# Altium schematic symbol library MaUWB.SchLib: 27 symbols
Pins are listed as number, name and electrical type; pins without a type are passive.

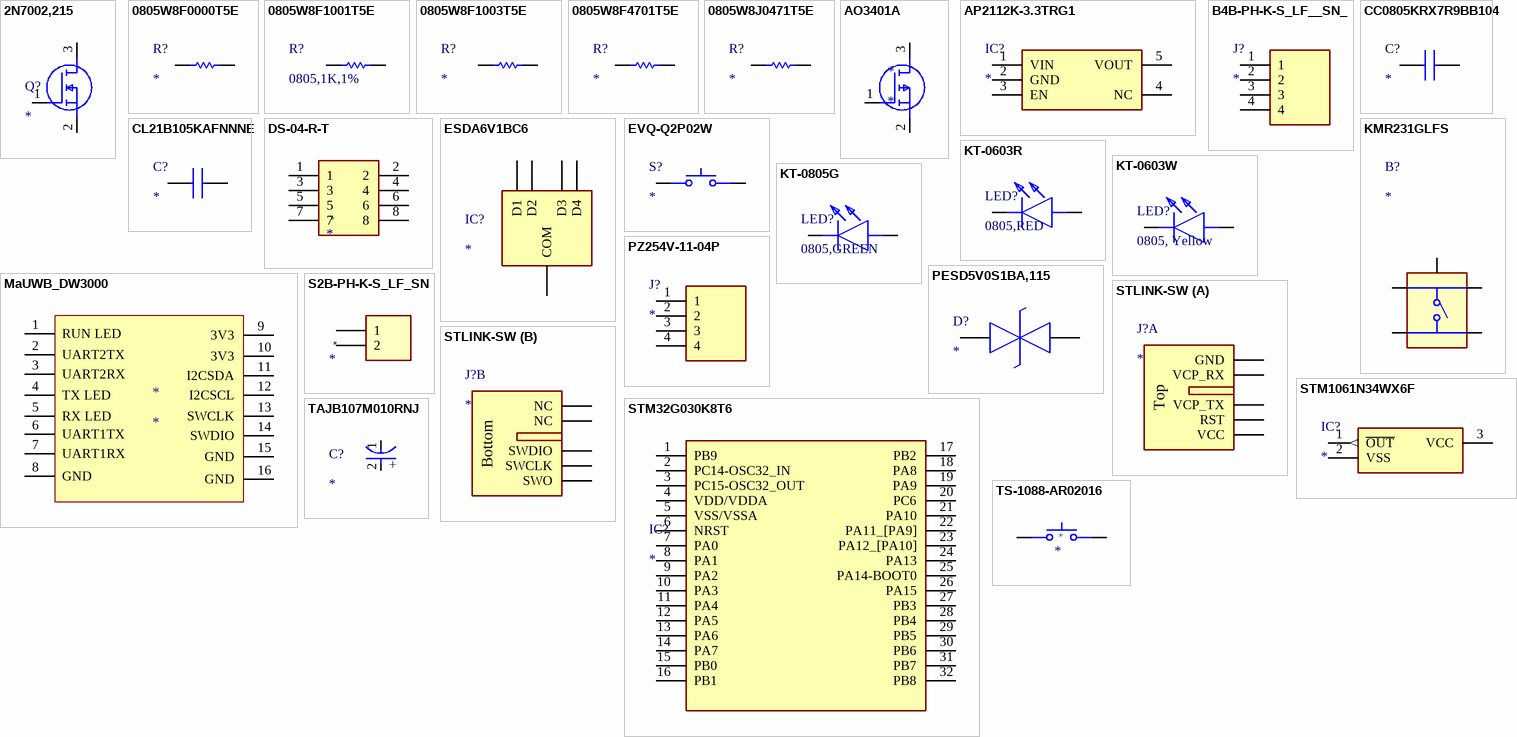
[diagram p0: symbols 2N7002,215 to TS-1088-AR02016]

## 2N7002,215
designator Q?
MOSFET (N-Channel); Manufacturer_Name: Nexperia; Manu Part #: 2N7002,215; LCSC Part #: C65189
footprint SOT95P230X110-3N
pins: 1 G, 2 S, 3 D

## 0805W8F0000T5E
designator R?
0 Ohm, 0805, 1%; Manufacturer_Name: UNI-ROYAL(Uniroyal Elec); Manu Part #: 0805W8F0000T5E; Height: 0.65mm; LCSC Part #: C17477
footprint RESC2013X65N - Duplicate1
pins: 1, 2

## 0805W8F1001T5E
designator R?, comment 0805,1K,1%
-55℃~+155℃ 125mW 150V 1kΩ Thick Film Resistor ±1% ±100ppm/℃ 0805 Chip Resistor - Surface Mount ROHS; Manu Part #: 0805W8F1001T5E; LCSC Part #: C17513
footprint RESC2013X65N - Duplicate2
pins: 1, 2

## 0805W8F1003T5E
designator R?
100K, 0805, 1%; Manufacturer_Name: ROYALOHM; Manu Part #: 0805W8F1003T5E; Datasheet Link: https://www.mouser.in/datasheet/2/1365/1-3044649.pdf; Height: 0.65mm; LCSC Part #: C149504
footprint RESC2013X65N - Duplicate2
pins: 1, 2

## 0805W8F4701T5E
designator R?
4.7k 0805 1%; Manufacturer_Name: UNI-ROYAL(Uniroyal Elec); Manu Part #: 0805W8F4701T5E; LCSC Part #: C17673
footprint RESC2013X65N
pins: 1, 2

## 0805W8J0471T5E
designator R?
470, 0805, 5%; Manufacturer_Name: ROYALOHM; Manu Part #: 0805W8F4700T5E; LCSC Part #: C17710
footprint RESC2013X65N - Duplicate
pins: 1, 2

## AO3401A
designator *
PMOS 4.2A SOT-23; Manu Part #: AO3401A; LCSC Part #: C21266
footprint SOT95P280X125-3N - duplicate
pins: 1 G, 2 S, 3 D

## AP2112K-3.3TRG1
designator IC?
3.3V 600mA LDO; Manufacturer_Name: Diodes Incorporated; Manu Part #: AP2112K-3.3TRG1; Datasheet Link: https://www.diodes.com//assets/Datasheets/AP2112.pdf; Height: 1.4mm; LCSC Part #: C51118
footprint SOT95P285X140-5N
pins: 1 VIN, 2 GND, 3 EN, 4 NC, 5 VOUT

## B4B-PH-K-S_LF__SN_
designator J?
JST 4 pin; Manufacturer_Name: JST (JAPAN SOLDERLESS TERMINALS); Manu Part #: B4B-PH-K-S(LF)(SN); Datasheet Link: https://datasheet.lcsc.com/szlcsc/JST-Sales-America-B4B-PH-K-S-LF-SN_C131334.pdf; Height: 6mm; LCSC Part #: C131334
footprint SHDR4W50P0X200_1X4_990X450X600P
pins: 1, 2, 3, 4

## CC0805KRX7R9BB104
designator C?
100nF, 0805, X7R; Manufacturer_Name: Yageo Group; Manu Part #: CC0805KRX7R9BB104; LCSC Part #: C49678
footprint CAPC2012X95N
pins: 1, 2

## CL21B105KAFNNNE
designator C?
1uF, 0805, X7R; Manufacturer_Name: SAMSUNG; Manu Part #: CL21B105KBFNNNE; LCSC Part #: C28323
footprint CAPC2012X135N
pins: 1, 2

## DS-04-R-T
designator *
-30℃~+85℃ 2.54mm 24V 25mA 3,000 Cycles 4 Red SPST Slide, Rocked Plugin,P=2.54mm DIP Switches ROHS; Manufacturer: kangshen; Manu Part #: DS-04-R-T; Footprint: JLCImport:DS-04-R-T; LCSC Part #: C5123702
footprint DS-04-R-T
pins: 1, 2, 3, 4, 5, 6, 7, 8

## ESDA6V1BC6
designator IC?
Clamp Ipp Tvs Diode Surface Mount SOT-23-6; Manu Part #: ESDA6V1BC6; LCSC Part #: C495220
footprint SOT95P280X145-6N
pins: 1 D1, 2 COM, 3 D2, 4 D3, 5 COM, 6 D4

## EVQ-Q2P02W
designator S?
Tactile Switch SPST-NO Top Actuated Surface Mount; Manufacturer_Name: Panasonic; Manu Part #: EVQ-Q2P02W; LCSC Part #: C2680625
footprint EVQQ2P02W
pins: A1 COM_1, A2 COM_2, B1 NO_1, B2 NO_2

## KMR231GLFS
designator B?
Tactile Switch SPST 300gf 1.9mm Gull Wing 4.6mm x 2.8mm Surface Mount; Manu Part #: KMR231GLFS; LCSC Part #: C99271
footprint KMR231GLFS
pins: 1, 2, 3, 4, 5

## KT-0603R
designator LED?, comment 0805,RED
Red 631nm LED Indication - Discrete 2V 0805 (2012 Metric); Manufacturer_Name: Hubei KENTO Elec; Manu Part #: KT-0603R; LCSC Part #: C2286
footprint LEDC2012X120N - Duplicate
pins: 1 K, 2 A

## KT-0603W
designator LED?, comment 0805, Yellow
Yellow 631nm LED Indication - Discrete 2V 0805 (2012 Metric); Manufacturer_Name: Hubei KENTO Elec; Manu Part #: KT-0603W; LCSC Part #: C2290
footprint LEDC2012X120N - Duplicate
pins: 1 K, 2 A

## KT-0805G
designator LED?, comment 0805,GREEN
Green 569nm LED Indication - Discrete 2.1V 0805 (2012 Metric); Manufacturer_Name: Hubei KENTO Elec; Manu Part #: KT-0805G; LCSC Part #: C2297
footprint LEDC2012X120N
pins: 1 K, 2 A

## MaUWB_DW3000
designator *
DW3000 Chipset
footprint MaUWB_DW3000
pins: 1 RUN LED, 2 UART2TX, 3 UART2RX, 4 TX LED, 5 RX LED, 6 UART1TX, 7 UART1RX, 8 GND, 9 3V3, 10 3V3, 11 I2CSDA, 12 I2CSCL, 13 SWCLK, 14 SWDIO, 15 GND, 16 GND

## PESD5V0S1BA,115
designator D?
14VC Clamp 12A@8/20us Ipp ESD DIODE SOD-323; Manu Part #: PESD5V0S1BA,115; LCSC Part #: C19224
footprint SOD2512X110N
pins: 1 K1, 2 K2

## PZ254V-11-04P
designator J?
4 pin 2.54mm Header; Manufacturer_Name: XFCN; Manufacturer_Part_Number: PZ254V-11-04P; LCSC Part #: C2691448
footprint HDRV4W64P0X254_1X4_1016X250X890P
pins: 1, 2, 3, 4

## S2B-PH-K-S_LF_SN
designator *
-25℃~+85℃ 1 100V 1x2P 2 2A 2P 2mm 4.8mm 5.9mm 7.6mm Brass K Pin PA66 PH Right Angle Tin UL94V-0 White 弯插,P=2mm Wire To Board Connector ROHS; Manufacturer: JST; Manu Part #: S2B-PH-K-S(LF)(SN); LCSC Part #: C173752
footprint S2B-PH-K-S_LF_SN
pins: 1, 2

## STLINK-SW
designator J?  (no BOM)
SSL Connector 10 Position Adapter, Bridge Board to Board - Card Edge 0.079" (2.00mm)
footprint 009159010061911
part A pins: 1 GND, 2 VCP_RX, 3 VCP_TX, 4 RST, 5 VCC
part B pins: 6 NC, 7 NC, 8 SWDIO, 9 SWCLK, 10 SWO
part A text: Top
part B text: Bottom

## STM32G030K8T6
designator IC?
-40℃~+85℃ 12bit 2V~3.6V 30 32 Bit 64KB 64MHz 8KB ARM Cortex-M0+ Built-in+External FLASH LQFP-32(7x7) Microcontrollers (MCU/MPU/SOC) ROHS; Manufacturer_Name: STMicroelectronics; Manu Part #: STM32G030K8T6; LCSC Part #: C431631
footprint QFP80P900X900X160-32N
pins: 1 PB9, 2 PC14-OSC32_IN, 3 PC15-OSC32_OUT, 4 VDD/VDDA, 5 VSS/VSSA, 6 NRST, 7 PA0, 8 PA1, 9 PA2, 10 PA3, 11 PA4, 12 PA5, 13 PA6, 14 PA7, 15 PB0, 16 PB1, 17 PB2, 18 PA8, 19 PA9, 20 PC6, 21 PA10, 22 PA11_[PA9], 23 PA12_[PA10], 24 PA13, 25 PA14-BOOT0, 26 PA15, 27 PB3, 28 PB4, 29 PB5, 30 PB6, 31 PB7, 32 PB8

## STM1061N34WX6F
designator IC?
3.4V Voltage Supervisor; Manufacturer_Name: STMicroelectronics; Manu Part #: STM1061N34WX6F; Datasheet Link: https://www.st.com/resource/en/datasheet/stm1061.pdf; Height: 1.12mm; LCSC Part #: C222402
footprint SOT103P237X112-3N
pins: 1 ~{OUT} (out), 2 VSS (power), 3 VCC (power)

## TAJB107M010RNJ
designator C?
100uF, Tantalum; Manufacturer_Name: Kyocera AVX; Manu Part #: TAJB107M010RNJ; LCSC part #: C7196
footprint CAPPM3528X210N
pins: 1 C, 2 A
text: +

## TS-1088-AR02016
designator *
-30℃~+80℃ 1.6N 100,000 cycles 12V 2mm 3mm 4mm 50mA Black Round Button SMD(SMT) Tab SPST Surface Mount,Vertical Without Bracket SMD,4x3mm Tactile Switches ROHS; Manufacturer: XUNPU; Manu Part #: TS-1088-AR02016; LCSC Part #: C720477
footprint TS-1088-AR02016
pins: A1, B1